# Altium schematic symbol library ZIF_Tail_2X1X16_0MM5.SchLib: 1 symbol
Pins are listed as number, name and electrical type; pins without a type are passive.

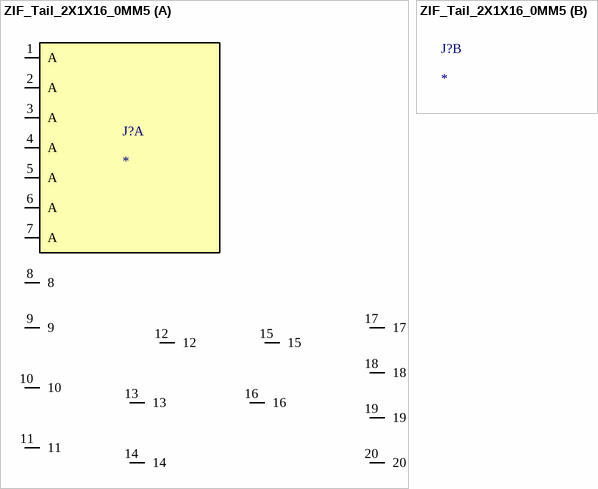
[diagram p0: symbol ZIF_Tail_2X1X16_0MM5]

## ZIF_Tail_2X1X16_0MM5
designator J?
part A pins: 1 A, 2 A, 3 A, 4 A, 5 A, 6 A, 7 A, 8, 9, 10, 11, 12, 13, 14, 15, 16, 17, 18, 19, 20